# Altium footprint library Smartstrap_with_MAX30205.PcbLib: 17 footprints (part 2 of 2)
Each footprint in its own frame and in the unit in brackets; x right, y up, seen from the top. Pads: shape width x height; smd on the part's side, far side on the other; paste and mask are expansions set on the pad; w line width, h text height; cw(c..) or ccw(c..) is an arc to the next point about the centre after c.
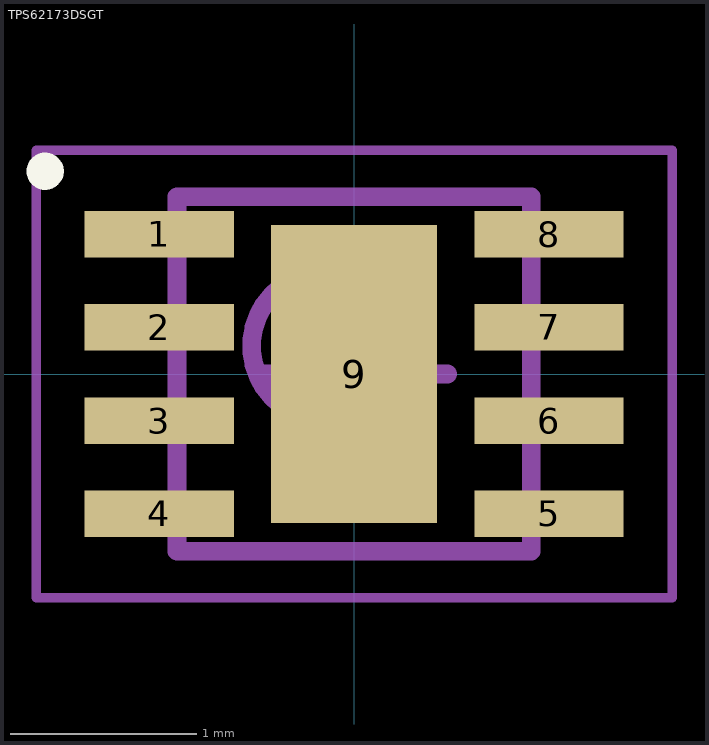
[diagram p1: the footprint, top view; thin cyan lines are the x and y axes]

## TPS62173DSGT [mm]
height 0.8
pads (9):
  rect 0.8x0.25 smd: 1(-1.045,0.75) 2(-1.045,0.25) 3(-1.045,-0.25) 4(-1.045,-0.75) 5(1.045,-0.75) 6(1.045,-0.25) 7(1.045,0.25) 8(1.045,0.75)
  rect 0.89x1.6 smd: 9(0,0)
Top Overlay:
  circle w0.1: c-1.657,1.087 r0.05
Mechanical 13:
  circle w0.1: c-0.15,0.15 r0.4
  lines w0.1: -0.95,-0.95 -0.95,0.95 0.95,0.95 0.95,-0.95 -0.95,-0.95
Mechanical 15:
  lines w0.05: -1.705,-1.2 -1.705,1.2 1.705,1.2 1.705,-1.2 -1.705,-1.2
  lines w0.1: -0.5,0 0.5,0 ; 0,-0.5 0,0.5
3D body: height 0.8, standoff 0.08, extent -0.95,-0.95 0.95,0.95